# EAGLE library part MCP2515 (library andereBauteile)
MC2515 Stand-Alone CAN Controller With SPI Interface
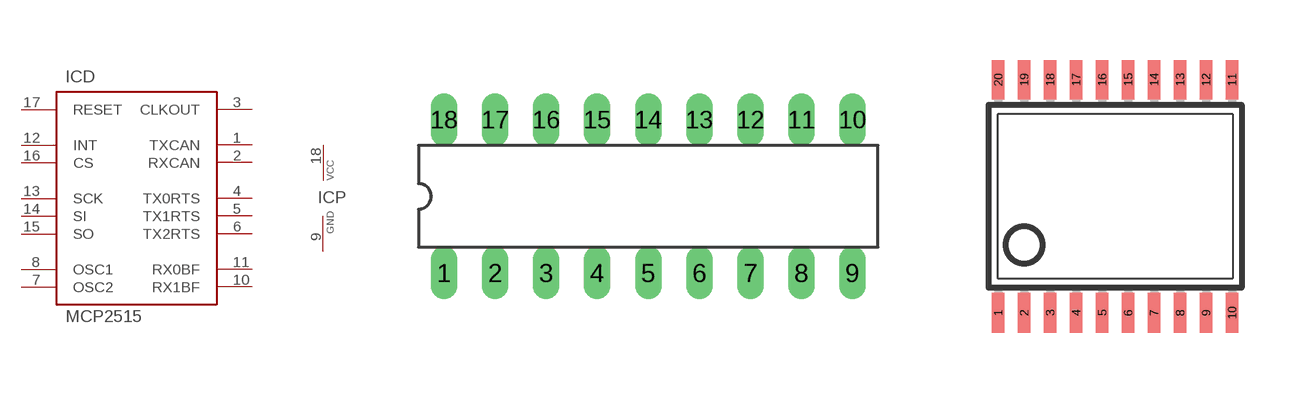
[diagram p38: symbol with the pads of DIL18; footprints DIL18, TSSOP20]

Designator prefix IC; gates D=MCP2515 P=VCC-GND-1

## MCP2515P  [DIL18]
1  D:TXCAN  out
2  D:RXCAN  in
3  D:CLKOUT  out
4  D:TX0RTS  in
5  D:TX1RTS  in
6  D:TX2RTS  in
7  D:OSC2  in
8  D:OSC1  in
9  P:GND  pwr
10  D:RX1BF  out
11  D:RX0BF  out
12  D:INT  out
13  D:SCK  in
14  D:SI  in
15  D:SO  out
16  D:CS  in
17  D:RESET  in
18  P:VCC  pwr

## MCP2515ST  [TSSOP20]
1  D:TXCAN  out
2  D:RXCAN  in
3  D:CLKOUT  out
4  D:TX0RTS  in
5  D:TX1RTS  in
7  D:TX2RTS  in
8  D:OSC2  in
9  D:OSC1  in
10  P:GND  pwr
11  D:RX1BF  out
12  D:RX0BF  out
13  D:INT  out
14  D:SCK  in
16  D:SI  in
17  D:SO  out
18  D:CS  in
19  D:RESET  in
20  P:VCC  pwr

## MCP2515SO  [SO-18W]
Pads as for DIL18

## Footprint DIL18 (pad centres in mm)
Dual In Line package type P
drill 0.813 long: 1 -10.16,-3.81; 2 -7.62,-3.81; 3 -5.08,-3.81; 4 -2.54,-3.81; 5 0,-3.81; 6 2.54,-3.81; 7 5.08,-3.81; 8 7.62,-3.81; 9 10.16,-3.81; 10 10.16,3.81; 11 7.62,3.81; 12 5.08,3.81; 13 2.54,3.81; 14 0,3.81; 15 -2.54,3.81; 16 -5.08,3.81; 17 -7.62,3.81; 18 -10.16,3.81

## Footprint TSSOP20 (pad centres in mm)
Thin Shrink Small Outline Plastic 20 MAX3223-MAX3243.pdf
smd 0.305 x 0.991: 1 -2.925,-2.918; 2 -2.275,-2.918; 3 -1.625,-2.918; 4 -0.975,-2.918; 5 -0.325,-2.918; 6 0.325,-2.918; 7 0.975,-2.918; 8 1.625,-2.918; 9 2.275,-2.918; 10 2.925,-2.918; 11 2.925,2.918; 12 2.275,2.918; 13 1.625,2.918; 14 0.975,2.918; 15 0.325,2.918; 16 -0.325,2.918; 17 -0.975,2.918; 18 -1.625,2.918; 19 -2.275,2.918; 20 -2.925,2.918

## Footprint SO-18W (pad centres in mm)
Small Outline Wide Plastic Gull Wing 300-mil body, package type SO
smd 0.762 x 1.143: 1 -5.08,-4.788; 2 -3.81,-4.788; 3 -2.54,-4.788; 4 -1.27,-4.788; 5 0,-4.788; 6 1.27,-4.788; 7 2.54,-4.788; 8 3.81,-4.788; 9 5.08,-4.788; 10 5.08,4.788; 11 3.81,4.788; 12 2.54,4.788; 13 1.27,4.788; 14 0,4.788; 15 -1.27,4.788; 16 -2.54,4.788; 17 -3.81,4.788; 18 -5.08,4.788